# Altium footprint library eos26_motherboard_basic.PcbLib: 22 footprints (part 2 of 2)
Each footprint in its own frame and in the unit in brackets; x right, y up, seen from the top. Pads: shape width x height; smd on the part's side, far side on the other; paste and mask are expansions set on the pad; w line width, h text height; cw(c..) or ccw(c..) is an arc to the next point about the centre after c.
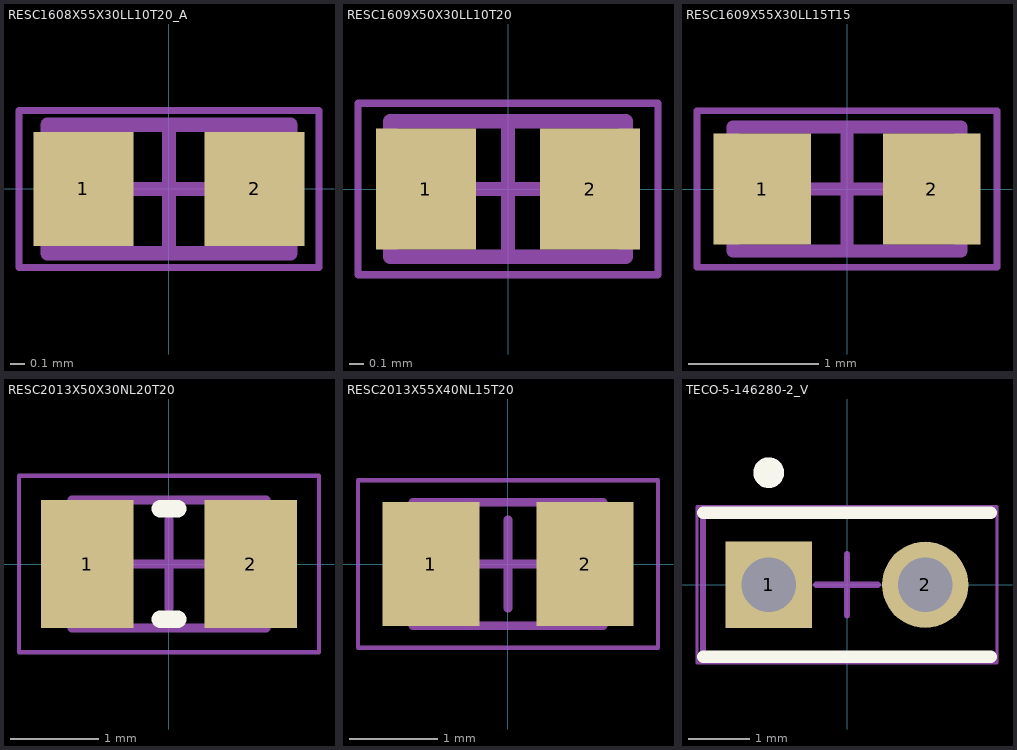
[diagram p1: the footprints below, top view; thin cyan lines are the x and y axes]

## RESC1608X55X30LL10T20_A [mm]
pads (2):
  rect 0.7x0.8 smd: 1(-0.6,0) 2(0.6,0)
Top 3D Body:
  lines w0.1: -0.85,-0.45 -0.85,0.45 0.85,0.45 0.85,-0.45 -0.85,-0.45
Top Courtyard:
  lines w0.05: -1.05,-0.55 -1.05,0.55 1.05,0.55 1.05,-0.55 -1.05,-0.55
  lines w0.1: -0.45,0 0.45,0 ; 0,-0.45 0,0.45
3D body "RESC1608X06L.step": height 0.55, standoff 0, extent -0.85,-0.45 0.85,0.45

## RESC1609X50X30LL10T20 [mm]
pads (2):
  rect 0.7x0.85 smd: 1(-0.575,0) 2(0.575,0)
Top 3D Body:
  lines w0.1: -0.825,-0.475 0.825,-0.475 0.825,0.475 -0.825,0.475 -0.825,-0.475
Top Courtyard:
  lines w0.05: -1.05,-0.6 1.05,-0.6 1.05,0.6 -1.05,0.6 -1.05,-0.6
  lines w0.1: -0.475,0 0.475,0 ; 0,-0.475 0,0.475
3D body: height 0.5, standoff 0, extent 0.525,-0.475 0.825,0.475
3D body: height 0.5, standoff 0, extent -0.825,-0.475 -0.525,0.475
3D body: height 0.5, standoff 0, extent -0.525,-0.475 0.525,0.475

## RESC1609X55X30LL15T15 [mm]
pads (2):
  rect 0.75x0.85 smd: 1(-0.65,0) 2(0.65,0)
Top 3D Body:
  lines w0.1: -0.875,-0.475 0.875,-0.475 0.875,0.475 -0.875,0.475 -0.875,-0.475
Top Courtyard:
  lines w0.05: -1.15,-0.6 1.15,-0.6 1.15,0.6 -1.15,0.6 -1.15,-0.6
  lines w0.1: -0.475,0 0.475,0 ; 0,-0.475 0,0.475
3D body "RESC1608X06L.step": height 0.55, standoff 0, extent -0.875,-0.475 0.875,0.475

## RESC2013X50X30NL20T20 [mm]
pads (2):
  rect 1.05x1.45 smd: 1(-0.925,0) 2(0.925,0)
Top Overlay:
  lines w0.2: -0.1,-0.625 0.1,-0.625 ; -0.1,0.625 0.1,0.625
Top 3D Body:
  lines w0.1: -1.1,-0.725 -1.1,0.725 1.1,0.725 1.1,-0.725 -1.1,-0.725
Top Courtyard:
  lines w0.05: -1.7,-1 -1.7,1 1.7,1 1.7,-1 -1.7,-1
  lines w0.1: -0.5,0 0.5,0 ; 0,-0.5 0,0.5
3D body: height 0.5, standoff 0, extent 0.8,-0.725 1.1,0.725
3D body: height 0.5, standoff 0, extent -0.8,-0.725 0.8,0.725
3D body: height 0.5, standoff 0, extent -1.1,-0.725 -0.8,0.725

## RESC2013X55X40NL15T20 [mm]
pads (2):
  rect 1.1x1.4 smd: 1(-0.875,0) 2(0.875,0)
Top 3D Body:
  lines w0.1: -1.075,-0.7 1.075,-0.7 1.075,0.7 -1.075,0.7 -1.075,-0.7
Top Courtyard:
  lines w0.05: -1.7,-0.95 1.7,-0.95 1.7,0.95 -1.7,0.95 -1.7,-0.95
  lines w0.1: -0.5,0 0.5,0 ; 0,-0.5 0,0.5
3D body: height 0.55, standoff 0, extent 0.675,-0.7 1.075,0.7
3D body: height 0.55, standoff 0, extent -1.075,-0.7 -0.675,0.7
3D body: height 0.55, standoff 0, extent -0.675,-0.7 0.675,0.7

## TECO-5-146280-2_V [mm]
pads (2):
  rect 1.4x1.4 hole 0.89: 1(-1.27,0)
  round 1.4 hole 0.89: 2(1.27,0)
Top Overlay:
  circle w0.25: c-1.27,1.82 r0.125
  lines w0.2: -2.335,-1.17 2.335,-1.17 ; -2.335,1.17 2.335,1.17
Top 3D Body:
  lines w0.1: 2.335,-1.17 -2.335,-1.17 -2.335,1.17 2.335,1.17
Top Courtyard:
  lines w0.05: -2.435,-1.27 2.435,-1.27 2.435,1.27 -2.435,1.27 -2.435,-1.27
  lines w0.1: -0.5,0 0.5,0 ; 0,-0.5 0,0.5
3D body "c-5-146280-2-d-3d.stp": height 5.33, standoff -5.84, extent -2.337,-1.168 2.337,1.169